# Altium schematic symbol library IC_On_Semiconductor_MC74HC595ADR2G_eec.SchLib: 1 symbol
Pins are listed as number, name and electrical type; pins without a type are passive.

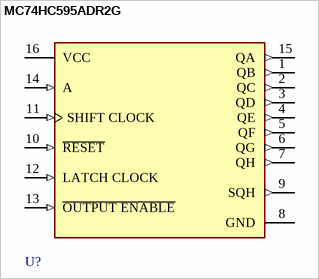
[diagram p0: symbol MC74HC595ADR2G]

## MC74HC595ADR2G
designator U?  (value not drawn)
pins: 1 QB (out), 2 QC (out), 3 QD (out), 4 QE (out), 5 QF (out), 6 QG (out), 7 QH (out), 8 GND (power), 9 SQH (out), 10 ~{RESET} (in), 11 SHIFT CLOCK (in), 12 LATCH CLOCK (in), 13 ~{OUTPUT ENABLE} (in), 14 A (in), 15 QA (out), 16 VCC (power)